# Altium schematic symbol library CAP - Aluminum Capacitors.SchLib: 4 symbols
Pins are listed as number, name and electrical type; pins without a type are passive.

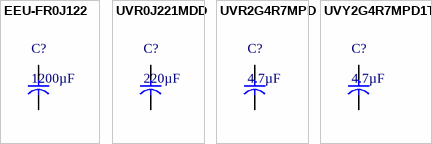
[diagram p0: symbols EEU-FR0J122 to UVY2G4R7MPD1TD]

## EEU-FR0J122
designator C?, comment 1200µF
CAP ALUM 1200UF 20% 6.3V RADIAL; Manufacturer: Panasonic Electronic Components; Manufacturer Part Number: EEU-FR0J122; Lifetime @ Temp.: 6000 Hrs @ 105°C; Polarization: Polar; Ripple Current: 1.032A @ 120Hz; Impedance: 43 mOhm; Type: Radial Lead Type; Voltage Rating DC: 6.3 VDC; Brand: Panasonic; ESR: 43 mOhms; Life: 6000 Hour; Supplier 1: Digi-Key; Supplier Part Number 1: P14362-ND; RoHS: RoHS Compliant; Category: Capacitors; Stock 1: 1693; Pricing 1: 1=0.64, 10=0.469, 25=0.4016, 50=0.375, 100=0.3214, 250=0.2946, 500=0.25442, 1000=0.21424, 2500=0.20085 (USD); Packaging: Bulk; Part Status: Active; Capacitance: 1200µF; Tolerance: ±20%; Voltage Rating: 6.3V; ESR (Equivalent Series Resistance): -; Operating Temperature: -40°C ~ 105°C; Applications: General Purpose; Lead Spacing: 0.197" (5.00mm); Size / Dimension: 0.394" Dia (10.00mm); Height - Seated (Max): 0.551" (14.00mm); Surface Mount Land Size: -; Mounting Type: Through Hole; Package / Case: Radial, Can; ComponentLink1URL: http://industrial.panasonic.com/cdbs/www-data/pdf/RDF0000/ABA0000C836.pdf; ComponentLink1Description: http://industrial.panasonic.com/cdbs/www-data/pdf/RDF0000/ABA0000C836.pdf; Supplier 2: Mouser; Supplier Part Number 2: 667-EEU-FR0J122; Stock 2: 732; Pricing 2: 1=0.640, 10=0.375, 100=0.294, 500=0.254, 1000=0.214, 2500=0.200, 10000=0.181, 25000=0.174, 50000=0.167 (USD); Diameter: 10 mm; Length: 12.5 mm; Product: Low ESR Electrolytic Capacitors; Series: FR; Termination Style: Radial; Maximum Operating Temperature: + 105 C; Standard Pack Qty: 200; RoHS - Mouser: Y; Minimum Order Quantity: 1; Reeling: False; ComponentLink2URL: http://www.mouser.com/ds/2/315/ABA0000C1021-947569.pdf; ComponentLink2Description: http://www.mouser.com/ds/2/315/ABA0000C1021-947569.pdf
footprint CYLN/D100/H125/LS50 (Dia 10mm, Heigh 12.5mm, Lead Space 5.0mm)
pins: 1, 2

## UVR0J221MDD
designator C?, comment 220µF
CAP ALUM 220UF 20% 6.3V RADIAL; Manufacturer: Nichicon; Manufacturer Part Number: UVR0J221MDD; Lifetime @ Temp.: 2000 Hrs @ 85°C; Ripple Current: 200mA; Voltage Rating DC: 6.3 VDC; Leakage Current: 41.58 uA; Dissipation Factor DF: 0.28; Life: 2000 Hour; Supplier 1: Digi-Key; Supplier Part Number 1: 493-1004-ND; RoHS: RoHS Compliant; Category: Capacitors; Stock 1: 4402; Pricing 1: 1=0.25, 10=0.171, 25=0.1256, 50=0.1026, 100=0.0866, 250=0.07068, 500=0.05928, 1000=0.05244, 5000=0.0456 (USD); Packaging: Bulk; Part Status: Active; Capacitance: 220µF; Tolerance: ±20%; Voltage Rating: 6.3V; ESR (Equivalent Series Resistance): -; Operating Temperature: -40°C ~ 85°C; Polarization: -; Applications: General Purpose; Impedance: -; Lead Spacing: 0.079" (2.00mm); Size / Dimension: 0.197" Dia (5.00mm); Height - Seated (Max): 0.492" (12.50mm); Surface Mount Land Size: -; Mounting Type: Through Hole; Package / Case: Radial, Can; ComponentLink1URL: http://nichicon-us.com/english/products/pdfs/e-uvr.pdf; ComponentLink1Description: http://nichicon-us.com/english/products/pdfs/e-uvr.pdf; Supplier 2: Mouser; Supplier Part Number 2: 647-UVR0J221MDD; Stock 2: 4400; Pricing 2: 1=0.250, 10=0.103, 100=0.071, 500=0.060, 1000=0.051, 5000=0.039 (USD); Diameter: 5 mm; Length: 11 mm; Product: General Purpose Electrolytic Capacitors; Series: VR; Termination Style: Radial; Brand: Nichicon; Maximum Operating Temperature: + 85 C; Standard Pack Qty: 200; RoHS - Mouser: Y; Minimum Order Quantity: 1; Reeling: False; ComponentLink2URL: http://www.mouser.com/ds/2/293/e-vr-6088.pdf; ComponentLink2Description: http://www.mouser.com/ds/2/293/e-vr-6088.pdf
footprint CYLN/D050/H110/LS20 (Dia 5mm, Heigh 11mm, Lead Space 2mm)
footprint CYLN/D050/H110/LS20/RA (Dia 5mm, Heigh 11mm, Lead Space 2mm, Right Angle)
pins: 1, 2

## UVR2G4R7MPD
designator C?, comment 4.7µF
CAP ALUM 4.7UF 20% 400V RADIAL; Manufacturer: Nichicon; Manufacturer Part Number: UVR2G4R7MPD; Lifetime @ Temp.: 2000 Hrs @ 85°C; Ripple Current: 70mA; Voltage Rating DC: 400 VDC; Leakage Current: 175.2 uA; Dissipation Factor DF: 0.25; Life: 2000 Hour; Supplier 1: Digi-Key; RoHS: RoHS Compliant; Category: Capacitors; Stock 1: 20711; Pricing 1: 1=0.45, 10=0.315, 25=0.2692, 50=0.2384, 100=0.2076, 250=0.17688, 500=0.1538, 1000=0.13073, 5000=0.11535 (USD); Packaging: Bulk; Part Status: Active; Capacitance: 4.7µF; Tolerance: ±20%; Voltage Rating: 400V; ESR (Equivalent Series Resistance): -; Operating Temperature: -40°C ~ 85°C; Polarization: -; Applications: General Purpose; Impedance: -; Lead Spacing: 0.197" (5.00mm); Size / Dimension: 0.394" Dia (10.00mm); Height - Seated (Max): 0.689" (17.50mm); Surface Mount Land Size: -; Mounting Type: Through Hole; Package / Case: Radial, Can; ComponentLink1URL: http://nichicon-us.com/english/products/pdfs/e-uvr.pdf; ComponentLink1Description: http://nichicon-us.com/english/products/pdfs/e-uvr.pdf; Supplier 2: Mouser; Stock 2: 7396; Pricing 2: 1=0.450, 10=0.238, 100=0.176, 500=0.153, 1000=0.152, 5000=0.104 (USD); Diameter: 10 mm; Length: 16 mm; Product: General Purpose Electrolytic Capacitors; Series: VR; Termination Style: Radial; Brand: Nichicon; Maximum Operating Temperature: + 85 C; Standard Pack Qty: 200; RoHS - Mouser: Y; Minimum Order Quantity: 1; Reeling: False; ComponentLink2URL: http://www.mouser.com/ds/2/293/e-vr-6088.pdf; ComponentLink2Description: http://www.mouser.com/ds/2/293/e-vr-6088.pdf; Supplier Part Number 1: 493-1229-ND; Supplier Part Number 2: 647-UVR2G4R7MPD
footprint CYLN/D100/H125/LS50 (Dia 10mm, Heigh 12.5mm, Lead Space 5.0mm)
pins: 1, 2

## UVY2G4R7MPD1TD
designator C?, comment 4.7µF
CAP ALUM 4.7UF 20% 400V RADIAL; Manufacturer: Nichicon; Manufacturer Part Number: UVY2G4R7MPD1TD; Lifetime @ Temp.: 1000 Hrs @ 105°C; Ripple Current: 42mA; Voltage Rating DC: 400 VDC; Supplier 1: Digi-Key; Supplier Part Number 1: 493-12991-1-ND; RoHS: RoHS Compliant; Category: Capacitors; Stock 1: 1361; Pricing 1: 1=0.51, 10=0.362, 25=0.3092, 50=0.274, 100=0.2386, 250=0.20324 (USD); Packaging: Cut Tape (CT); Part Status: Active; Capacitance: 4.7µF; Tolerance: ±20%; Voltage Rating: 400V; ESR (Equivalent Series Resistance): -; Operating Temperature: -40°C ~ 105°C; Polarization: -; Applications: General Purpose; Impedance: -; Lead Spacing: 0.197" (5.00mm); Size / Dimension: 0.394" Dia (10.00mm); Height - Seated (Max): 0.551" (14.00mm); Surface Mount Land Size: -; Mounting Type: Through Hole; Package / Case: Radial, Can; ComponentLink1URL: http://nichicon-us.com/english/products/pdfs/e-uvy.pdf; ComponentLink1Description: http://nichicon-us.com/english/products/pdfs/e-uvy.pdf; Supplier 2: Mouser; Supplier Part Number 2: 647-UVY2G4R7MPD1TD; Stock 2: 1500; Pricing 2: 1=0.550, 10=0.316, 100=0.214, 500=0.158, 1000=0.135, 2500=0.127, 5000=0.119, 10000=0.109, 25000=0.103 (USD); Product: General Purpose Electrolytic Capacitors; Series: UVY; Termination Style: Radial; Brand: Nichicon; Standard Pack Qty: 500; RoHS - Mouser: Y; Minimum Order Quantity: 1; Reeling: True; ComponentLink2URL: http://www.mouser.com/ds/2/293/e-uvy-880047.pdf; ComponentLink2Description: http://www.mouser.com/ds/2/293/e-uvy-880047.pdf
footprint CYLN/D100/H125/LS50 (Dia 10mm, Heigh 12.5mm, Lead Space 5.0mm)
pins: 1, 2